# Altium schematic symbol library Inductors.SchLib: 21 symbols
Pins are listed as number, name and electrical type; pins without a type are passive.

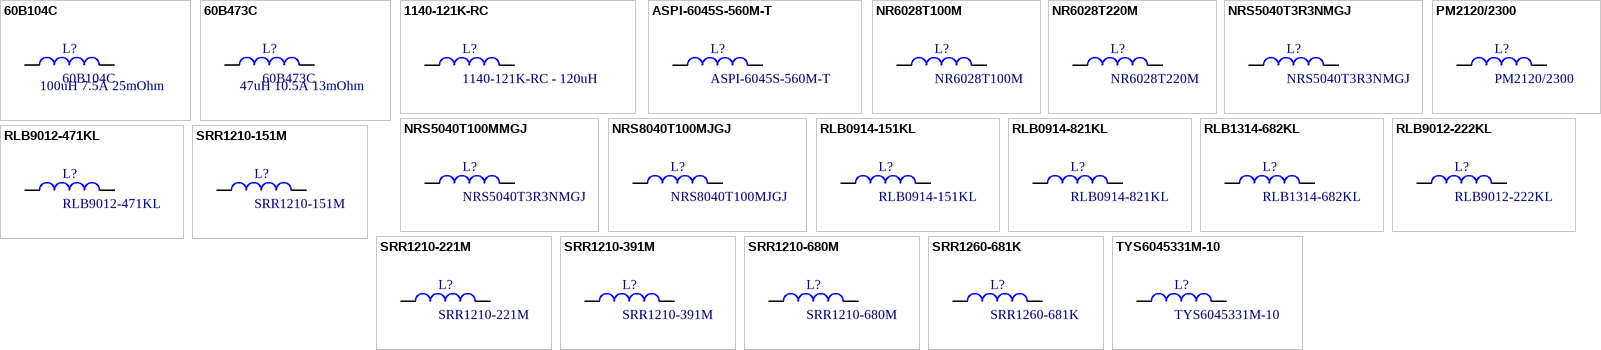
[diagram p0: symbols 60B104C to TYS6045331M-10]

## 60B104C
designator L?  value 100uH 7.5A 25mOhm
100uH +/- 15%, 7.5A Isat, 0.025 Ohms R_DC; Supplier 1: Mouser; Supplier Part Number 1: 580-60B104C; Supplier 2: Digi-Key; Supplier Part Number 2: 811-2461-ND
footprint 60B104C
pins: 1, 2

## 60B473C
designator L?  value 47uH 10.5A 13mOhm
47uH +/- 15%, 10.5A Isat, 0.013 Ohms R_DC; Supplier 1: Mouser; Supplier Part Number 1: 580-60B104C; Supplier 2: Digi-Key; Supplier Part Number 2: 811-2461-ND
footprint 60B104C
pins: 1, 2

## 1140-121K-RC
designator L?, comment 1140-121K-RC - 120uH
120uH +/- 20%, 18.6A Isat, 0.028 Ohms R_DC
footprint INDUCTOR - 1140-121K-RC
pins: 1, 2

## ASPI-6045S-560M-T
designator L?
Inductor, 56uH 1.1A 221 mOhm; Supplier 1: Mouser; Supplier Part Number 1: 815-ASPI-6045S-560MT; Supplier 2: Digi-Key; Supplier Part Number 2: ASPI-6045S-560M-TCT-ND
footprint ASPI-6045S-560M-T (Inductor)
pins: 1, 2

## NR6028T100M
designator L?
Inductor, 10uH 1.9A 84.5 mOhm; Supplier 1: Digi-Key; Supplier Part Number 1: 587-2102-1-ND
footprint NR6028T220M (Inductor)
pins: 1, 2

## NR6028T220M
designator L?
Inductor, 22uH 1.4A 175.5 mOhm; Supplier 1: Mouser; Supplier Part Number 1: 963-NR6028T220M; Supplier 2: Digi-Key; Supplier Part Number 2: 587-2103-1-ND; Supplier 3: Digi-Key; Supplier Part Number 3: 587-2938-1-ND; Supplier 4: Mouser; Supplier Part Number 4: 963-NRS6028T220MMGJ
footprint NR6028T220M (Inductor)
pins: 1, 2

## NRS5040T3R3NMGJ
designator L?
FIXED IND 3.3UH 3.3A 27 MOHM SMD; Supplier 1: Digi-Key; Supplier Part Number 1: 587-5939-1-ND
footprint NRS5040T3R3NMGJ (Inductor)
pins: 1, 2

## NRS5040T100MMGJ
designator L?, comment NRS5040T3R3NMGJ
FIXED IND 10UH 2.1A 73 MOHM SMD; Supplier 1: Digi-Key; Supplier Part Number 1: 587-5939-1-ND
footprint NRS5040T3R3NMGJ (Inductor)
pins: 1, 2

## NRS8040T100MJGJ
designator L?
FIXED IND 10UH 3.1A 44.2MOHM SMD
footprint NRS8040T100MJGJ (Inductor)
pins: 1, 2

## PM2120/2300
designator L?
Universal inductor footprint, Bourns 2300 or PM2120 series
footprint PM2120 - 2300
pins: 1, 2

## RLB0914-151KL
designator L?
150uH +/- 10%, 0.80A Isat, 0.37 Ohms R_DC; Supplier 1: Digi-Key; Supplier Part Number 1: RLB0914-151KL-ND; Supplier 2: Mouser; Supplier Part Number 2: 652-RLB0914-151KL
footprint RLB0914 (RLB series inductor, 0914)
pins: 1, 2

## RLB0914-821KL
designator L?
820uH +/- 10%, 0.35A Isat, 1.8 Ohms R_DC; Supplier 1: Mouser; Supplier Part Number 1: 652-RLB0914-821KL; Supplier 2: Digi-Key; Supplier Part Number 2: RLB0914-821KL-ND
footprint RLB0914 (RLB series inductor, 0914)
pins: 1, 2

## RLB1314-682KL
designator L?
6800uH +/- 10%, 0.12A Isat, 9.5 Ohms, R_DC
footprint INDUCTOR - RLB1314
pins: 1, 2

## RLB9012-222KL
designator L?
2200uH +/- 10%, 0.36A Isat, 5.9 Ohms R_DC
footprint INDUCTOR - RLB9012
pins: 1, 2

## RLB9012-471KL
designator L?
470uH +/- 10%, 0.3A Isat, 1.8 Ohms R_DC
footprint INDUCTOR - RLB9012
pins: 1, 2

## SRR1210-151M
designator L?
150uH +/- 20%, 1.8A Isat, 0.19 Ohms R_DC; Supplier 1: Mouser; Supplier Part Number 1: 652-SRR1210-151M; Supplier 2: Digi-Key; Supplier Part Number 2: SRR1210-151MCT-ND
footprint Inductor - SRR1210-221M (Molded Inductor, 2-Leads, Body 12.0x12.0mm, IPC Medium Density)
pins: 1, 2

## SRR1210-221M
designator L?
220uH +/- 20%, 1.5A Isat, 0.315 Ohms R_DC
footprint Inductor - SRR1210-221M (Molded Inductor, 2-Leads, Body 12.0x12.0mm, IPC Medium Density)
pins: 1, 2

## SRR1210-391M
designator L?
390uH +/- 20%, 1.1A Isat, 0.600 Ohms R_DC
footprint Inductor - SRR1210-221M (Molded Inductor, 2-Leads, Body 12.0x12.0mm, IPC Medium Density)
pins: 1, 2

## SRR1210-680M
designator L?
68uH +/- 20%, 3A Isat, 0.102 Ohms R_DC; Supplier 1: Digi-Key; Supplier Part Number 1: SRR1210-680MCT-ND
footprint Inductor - SRR1210-221M (Molded Inductor, 2-Leads, Body 12.0x12.0mm, IPC Medium Density)
pins: 1, 2

## SRR1260-681K
designator L?
680uH +/- 10%, 0.75A Isat, 1.15 Ohms R_DC
footprint SRR1260-681K (Molded Inductor, 2-Leads, Body 12.5x12.5mm, IPC Medium Density)
pins: 1, 2

## TYS6045331M-10
designator L?
Inductor, 330uH 570mA 1.27 Ohm
footprint TYS6045331M-10 (Inductor)
pins: 1, 2